# Altium footprint library TO-220.PcbLib: 1 footprints
Each footprint in its own frame and in the unit in brackets; x right, y up, seen from the top. Pads: shape width x height; smd on the part's side, far side on the other; paste and mask are expansions set on the pad; w line width, h text height; cw(c..) or ccw(c..) is an arc to the next point about the centre after c.
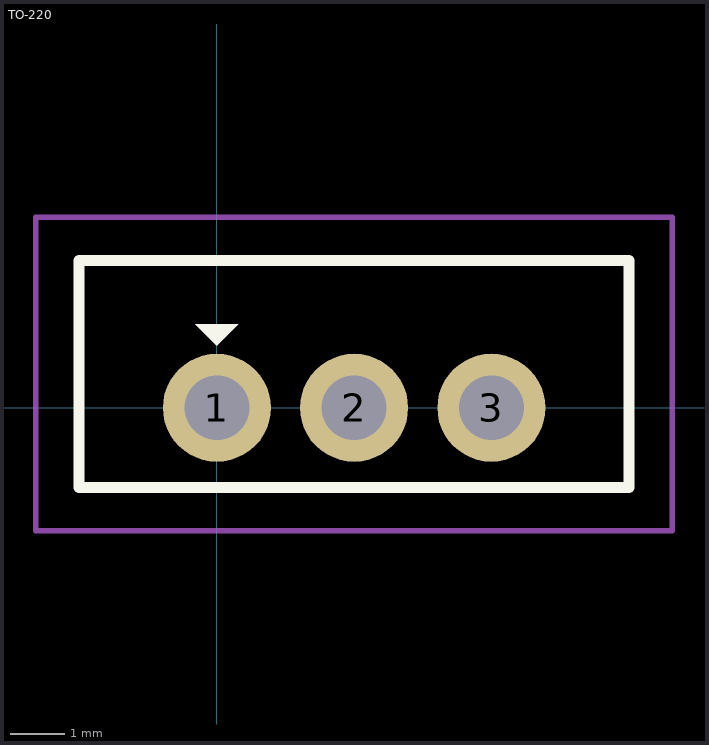
[diagram p0: the footprint, top view; thin cyan lines are the x and y axes]

## TO-220 [mm]
pads (3):
  round 2 hole 1.2: 1(0,0) 2(2.54,0) 3(5.08,0)
Top Overlay:
  region: -0.4,1.55 0.4,1.55 0,1.15
  lines w0.2: -2.55,-1.475 -2.55,2.725 7.625,2.725 7.625,-1.475 -2.55,-1.475
Top Courtyard:
  lines w0.1: -3.35,-2.275 -2.55,-2.275 8.425,-2.275 8.425,3.525 -3.35,3.525 -3.35,-2.275
3D body "IRFB4110PBF.STEP": height 20.57, standoff -10.67, extent -2.54,-1.473 7.62,2.718